# Altium schematic symbol library vishay_precision_resitor.SchLib: 1 symbol
Pins are listed as number, name and electrical type; pins without a type are passive.

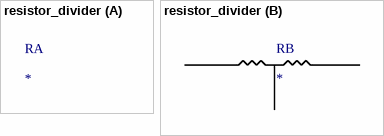
[diagram p0: symbol resistor_divider]

## resistor_divider
designator R
part B pins: 0 1, 1 2, 2 3